# EAGLE library part SD_CARD (library 1541-iii)
SD Card Socket
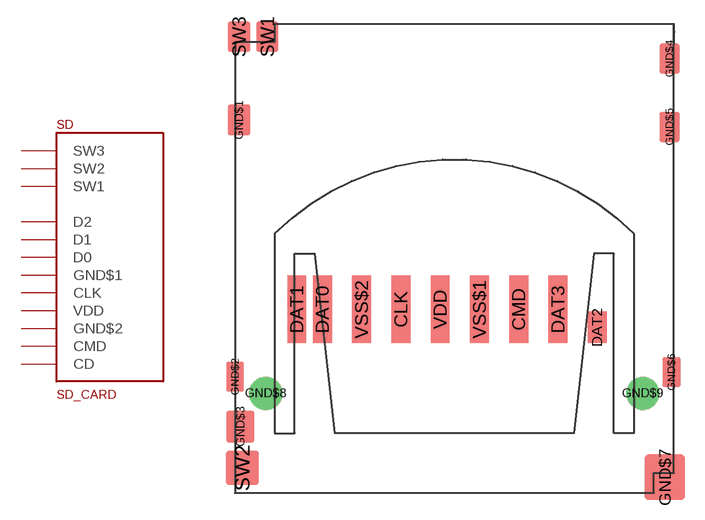
[diagram p0: symbol with the pads of SD_CARD; footprint SD_CARD]

Designator prefix SD

## SD_CARD  [SD_CARD]
CLK  CLK  in
CMD  CMD  in
DAT0  D0  out
DAT1  D1  out
DAT2  D2  out
DAT3  CD  in
SW1  SW1  in
SW2  SW2  out
SW3  SW3  out
VDD  VDD  pwr
VSS$1  GND$1  pwr
VSS$2  GND$2  pwr

## Footprint SD_CARD (pad centres in mm)
SD Card Receptacle
smd 1.2 x 4.3: CLK -3.4,5.34; CMD 4.1,5.34; DAT0 -8.4,5.34; DAT1 -10.025,5.34; DAT3 6.6,5.34; VDD -0.9,5.34; VSS$1 1.6,5.34; VSS$2 -5.9,5.34
smd 1.2 x 2: DAT2 9.1,4.19
smd 1.4 x 1.95: GND$1 -13.7,17.4; SW1 -11.9,22.7
smd 1.143 x 1.905: GND$2 -13.954,1.05; GND$6 13.827,1.35
smd 1.778 x 2.032: GND$3 -13.627,-2.127
smd 1.3 x 1.9: GND$4 13.7,21.3; GND$5 13.7,16.95
smd 2.6 x 2.9: GND$7 13.4,-5.35
drill 1.4 pad 1.5: GND$8 -12,0; GND$9 12,0
smd 2.1 x 2.2: SW2 -13.5,-4.75
smd 1.45 x 1.95: SW3 -13.7,22.7